# Altium integrated library panasonic.IntLib: 2 symbols
Pins are listed as number, name and electrical type; pins without a type are passive.

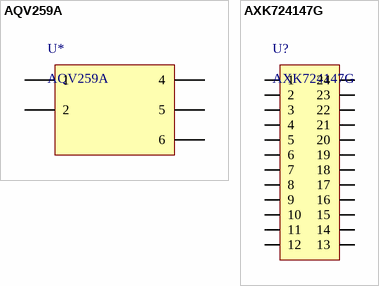
[diagram p0: symbols AQV259A to AXK724147G]

## AQV259A
designator U*
footprint AQV259A
pins: 1, 2, 4, 5, 6

## AXK724147G
designator U?
CONN SOCKET P4 .4MM 24POS SMD
footprint AXK724147G
pins: 1, 2, 3, 4, 5, 6, 7, 8, 9, 10, 11, 12, 13, 14, 15, 16, 17, 18, 19, 20, 21, 22, 23, 24